# Altium schematic symbol library Abracon.SchLib: 2 symbols
Pins are listed as number, name and electrical type; pins without a type are passive.

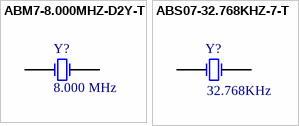
[diagram p0: symbols ABM7-8.000MHZ-D2Y-T to ABS07-32.768KHZ-7-T]

## ABM7-8.000MHZ-D2Y-T
designator Y?, comment value 8.000 MHz  (hidden comment: ABM7-16.000MHZ-D-2-Y-T)
CRYSTAL 8.0000 MHZ 18PF SMD; Manufacturer: Abracon; PartNumber: ABM7-16.000MHZ-D-2-Y-T
footprint XTAL-ABM7 (2-Leads, Body 6.0x3.5mm, IPC Medium Density)
pins: 1 OSC1, 2 OSC2

## ABS07-32.768KHZ-7-T
designator Y?  value 32.768KHz  (hidden comment: ABS07-32.768KHZ-7-T)
CRYSTAL 32.768KHZ 7PF SMD; Manufacturer: Abracon; PartNumber: ABS07-32.768KHZ-7-T; Supplier 1: Digi-Key; Supplier Part Number 1: 535-9543-1-ND; Supplier 2: Mouser; Supplier Part Number 2: 815-ABS07-32.768K7T
footprint XTAL-ABS07 (Chip Inductor, 2-Leads, Body 3,2x1,5mm, IPC Low Density)
pins: 1 OSC1, 2 OSC2